# EAGLE library part XR-T56L22ES (library exar)
PCM REPEATER/RECEIVER
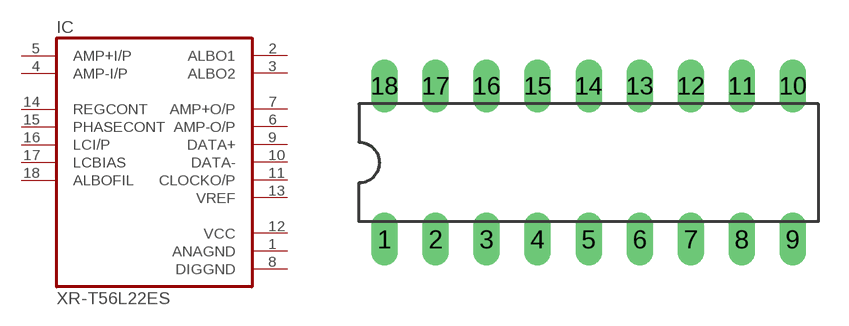
[diagram p14: symbol with the pads of DIL18; footprint DIL18]

Designator prefix IC

## XR-T56L22ES (OC_FARNELL: unknown; OC_NEWARK: unknown)  [DIL18]
1  ANAGND  pwr
2  ALBO1  out
3  ALBO2  out
4  AMP-I/P  in
5  AMP+I/P  in
6  AMP-O/P  out
7  AMP+O/P  out
8  DIGGND  pwr
9  DATA+  out
10  DATA-  out
11  CLOCKO/P  out
12  VCC  pwr
13  VREF  out
14  REGCONT  in
15  PHASECONT  in
16  LCI/P  in
17  LCBIAS  in
18  ALBOFIL  in

## Footprint DIL18 (pad centres in mm)
Dual In Line Package
drill 0.813 long: 1 -10.16,-3.81; 2 -7.62,-3.81; 3 -5.08,-3.81; 4 -2.54,-3.81; 5 0,-3.81; 6 2.54,-3.81; 7 5.08,-3.81; 8 7.62,-3.81; 9 10.16,-3.81; 10 10.16,3.81; 11 7.62,3.81; 12 5.08,3.81; 13 2.54,3.81; 14 0,3.81; 15 -2.54,3.81; 16 -5.08,3.81; 17 -7.62,3.81; 18 -10.16,3.81